# Altium footprint library Generic-Footprint-Library.PcbLib: 11 footprints
Each footprint in its own frame and in the unit in brackets; x right, y up, seen from the top. Pads: shape width x height; smd on the part's side, far side on the other; paste and mask are expansions set on the pad; w line width, h text height; cw(c..) or ccw(c..) is an arc to the next point about the centre after c.
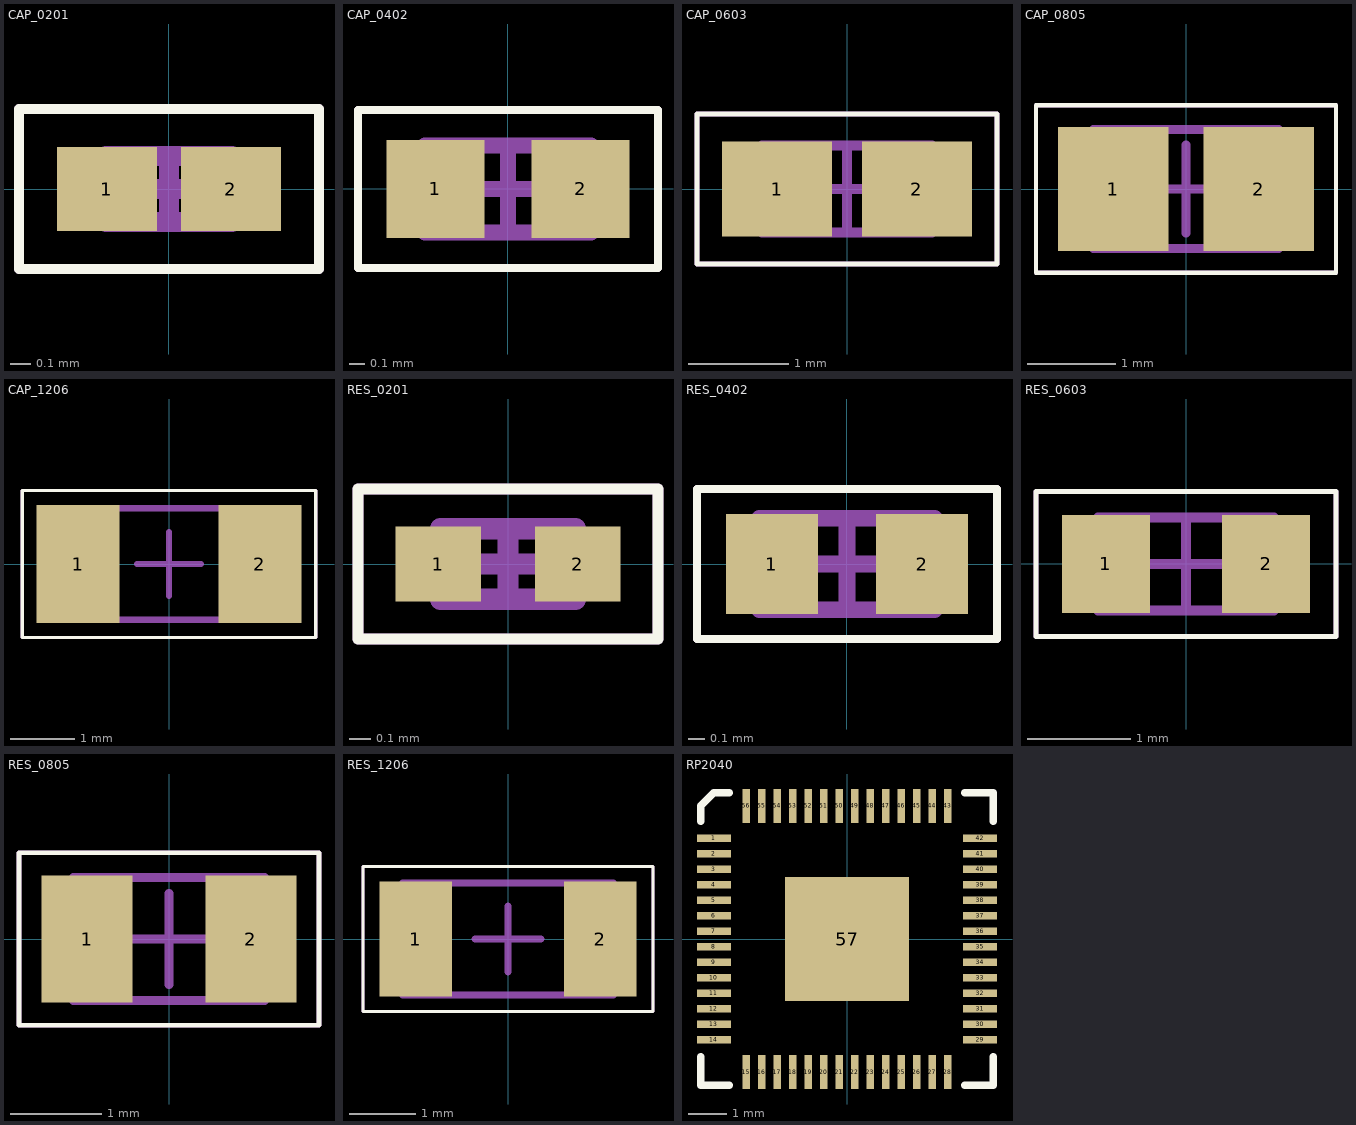
[diagram p0: the footprints below, top view; thin cyan lines are the x and y axes]

## CAP_0201 [mm]
height 0.33
pads (2):
  rect 0.5x0.42 smd mask+0.05: 1(-0.31,0) 2(0.31,0)
Top Overlay:
  lines w0.05: -0.75,-0.4 0.75,-0.4 0.75,0.4 -0.75,0.4 -0.75,-0.4
Top Assembly:
  lines w0.1: -0.315,-0.165 0.315,-0.165 0.315,0.165 -0.315,0.165 -0.315,-0.165
Top Courtyard:
  lines w0.05: -0.75,-0.4 0.75,-0.4 0.75,0.4 -0.75,0.4 -0.75,-0.4
Top Component Center:
  lines w0.1: -0.165,0 0.165,0 ; 0,-0.165 0,0.165
3D body "CAP_0201.step": height 0.33, standoff 0, extent -0.315,-0.165 0.315,0.165

## CAP_0402 [mm]
height 0.55
pads (2):
  rect 0.62x0.62 smd mask+0.05: 1(-0.46,0) 2(0.46,0)
Top Overlay:
  lines w0.05: -0.95,-0.5 0.95,-0.5 0.95,0.5 -0.95,0.5 -0.95,-0.5
Top Assembly:
  lines w0.1: -0.525,-0.275 0.525,-0.275 0.525,0.275 -0.525,0.275 -0.525,-0.275
Top Courtyard:
  lines w0.05: -0.95,-0.5 0.95,-0.5 0.95,0.5 -0.95,0.5 -0.95,-0.5
Top Component Center:
  lines w0.1: -0.275,0 0.275,0 ; 0,-0.275 0,0.275
3D body "CAP_0402_new.step": height 0.55, standoff 0, extent -0.525,-0.275 0.525,0.275

## CAP_0603 [mm]
height 0.87
pads (2):
  rect 1.1x0.95 smd mask+0.05: 1(-0.7,0) 2(0.7,0)
Top Overlay:
  lines w0.05: -1.5,-0.75 1.5,-0.75 1.5,0.75 -1.5,0.75 -1.5,-0.75
Top Assembly:
  lines w0.1: -0.85,-0.435 0.85,-0.435 0.85,0.435 -0.85,0.435 -0.85,-0.435
Top Courtyard:
  lines w0.05: -1.5,-0.75 1.5,-0.75 1.5,0.75 -1.5,0.75 -1.5,-0.75
Top Component Center:
  lines w0.1: -0.435,0 0.435,0 ; 0,-0.435 0,0.435
3D body "CAP_0603.step": height 0.87, standoff 0, extent -0.85,-0.435 0.85,0.435

## CAP_0805 [mm]
height 1.35
pads (2):
  rect 1.25x1.4 smd: 1(-0.825,0) 2(0.825,0)
Top Overlay:
  lines w0.05: -1.331,-0.95 -1.7,-0.95 ; -1.7,-0.95 1.7,-0.95 1.7,0.95 -1.7,0.95 -1.7,-0.95
Top Assembly:
  lines w0.1: -1.05,-0.675 1.05,-0.675 1.05,0.675 -1.05,0.675 -1.05,-0.675
Top Courtyard:
  lines w0.05: -1.7,-0.95 1.7,-0.95 1.7,0.95 -1.7,0.95 -1.7,-0.95
Top Component Center:
  lines w0.1: -0.5,0 0.5,0 ; 0,-0.5 0,0.5
3D body "CAP_0805.step": height 1.35, standoff 0, extent -1.05,-0.675 1.05,0.675

## CAP_1206 [mm]
height 1.35
pads (2):
  rect 1.3x1.85 smd mask+0.05: 1(-1.425,0) 2(1.425,0)
Top Overlay:
  lines w0.05: -2.3,-1.15 2.3,-1.15 2.3,1.15 -2.3,1.15 -2.3,-1.15
Top Assembly:
  lines w0.1: -1.675,-0.875 1.675,-0.875 1.675,0.875 -1.675,0.875 -1.675,-0.875
Top Courtyard:
  lines w0.05: -2.3,-1.15 2.3,-1.15 2.3,1.15 -2.3,1.15 -2.3,-1.15
Top Component Center:
  lines w0.1: -0.5,0 0.5,0 ; 0,-0.5 0,0.5
3D body "CAP_1206.step": height 1.35, standoff 0, extent -1.675,-0.875 1.675,0.875

## RES_0201 [mm]
height 0.26
pads (2):
  rect 0.4x0.35 smd mask+0.05: 1(-0.325,0) 2(0.325,0)
Top Overlay:
  lines w0.05: -0.7,-0.35 -0.7,0.35 ; -0.7,-0.35 0.7,-0.35 ; -0.7,-0.35 -0.7,0.35 ; -0.7,-0.35 0.7,-0.35 ; -0.7,0.35 0.7,0.35 ; -0.7,0.35 0.7,0.35 ; 0.7,-0.35 0.7,0.35 ; 0.7,-0.35 0.7,0.35
Top Assembly:
  lines w0.1: -0.315,-0.165 -0.315,0.165 0.315,0.165 0.315,-0.165 -0.315,-0.165
Top Courtyard:
  lines w0.05: -0.7,-0.35 -0.7,0.35 ; -0.7,-0.35 0.7,-0.35 ; -0.7,-0.35 0.7,-0.35 ; -0.7,-0.35 -0.7,0.35 ; -0.7,0.35 0.7,0.35 ; -0.7,0.35 0.7,0.35 ; 0.7,-0.35 0.7,0.35 ; 0.7,-0.35 0.7,0.35
Top Component Center:
  lines w0.1: -0.165,0 0.165,0 ; 0,-0.165 0,0.165
3D body "RES_0201_new.step": height 0.26, standoff 0, extent -0.315,-0.165 0.315,0.165

## RES_0402 [mm]
height 0.4
pads (2):
  rect 0.55x0.6 smd mask+0.05: 1(-0.45,0) 2(0.45,0)
Top Overlay:
  lines w0.05: -0.9,-0.45 -0.9,0.45 0.9,0.45 0.9,-0.45 -0.9,-0.45
Top Assembly:
  lines w0.1: -0.525,-0.275 -0.525,0.275 0.525,0.275 0.525,-0.275 -0.525,-0.275
Top Courtyard:
  lines w0.05: -0.9,-0.45 -0.9,0.45 0.9,0.45 0.9,-0.45 -0.9,-0.45
Top Component Center:
  lines w0.1: -0.275,0 0.275,0 ; 0,-0.275 0,0.275
3D body "RES_0402.step": height 0.4, standoff 0, extent -0.525,-0.275 0.525,0.275

## RES_0603 [mm]
height 0.55
pads (2):
  rect 0.85x0.95 smd mask+0.05: 1(-0.775,0) 2(0.775,0)
Top Overlay:
  lines w0.05: -1.45,-0.7 -1.45,0.7 1.45,0.7 1.45,-0.7 -1.45,-0.7
Top Assembly:
  lines w0.1: -0.85,-0.45 -0.85,0.45 0.85,0.45 0.85,-0.45 -0.85,-0.45
Top Courtyard:
  lines w0.05: -1.45,-0.7 -1.45,0.7 1.45,0.7 1.45,-0.7 -1.45,-0.7
Top Component Center:
  lines w0.1: -0.45,0 0.45,0 ; 0,-0.45 0,0.45
3D body "RES_0603.step": height 0.55, standoff 0, extent -0.85,-0.45 0.85,0.45

## RES_0805 [mm]
height 0.6
pads (2):
  rect 1x1.4 smd mask+0.05: 1(-0.9,0) 2(0.9,0)
Top Overlay:
  lines w0.05: -1.65,-0.95 1.65,-0.95 1.65,0.95 -1.65,0.95 -1.65,-0.95
Top Assembly:
  lines w0.1: -1.05,-0.675 1.05,-0.675 1.05,0.675 -1.05,0.675 -1.05,-0.675
Top Courtyard:
  lines w0.05: -1.65,-0.95 1.65,-0.95 1.65,0.95 -1.65,0.95 -1.65,-0.95
Top Component Center:
  lines w0.1: -0.5,0 0.5,0 ; 0,-0.5 0,0.5
3D body "RES_0805.step": height 0.6, standoff 0, extent -1.05,-0.675 1.05,0.675

## RES_1206 [mm]
height 0.65
pads (2):
  rect 1.1x1.75 smd mask+0.05: 1(-1.4,0) 2(1.4,0)
Top Overlay:
  lines w0.05: -2.2,-1.1 -2.2,1.1 2.2,1.1 2.2,-1.1 -2.2,-1.1
Top Assembly:
  lines w0.1: -1.6,-0.85 -1.6,0.85 1.6,0.85 1.6,-0.85 -1.6,-0.85
Top Courtyard:
  lines w0.05: -2.2,-1.1 -2.2,1.1 2.2,1.1 2.2,-1.1 -2.2,-1.1
Top Component Center:
  lines w0.1: -0.5,0 0.5,0 ; 0,-0.5 0,0.5
3D body "RES_1206_FIX.step": height 0.65, standoff 0, extent -1.6,-0.85 1.6,0.85

## RP2040 [mm]
pads (57):
  rect 0.875x0.2 smd mask+0.05: 1(-3.437,2.6) 2(-3.437,2.2) 3(-3.437,1.8) 4(-3.437,1.4) 5(-3.437,1) 6(-3.437,0.6) 7(-3.437,0.2) 8(-3.437,-0.2) 9(-3.437,-0.6) 10(-3.437,-1) 11(-3.437,-1.4) 12(-3.437,-1.8) 13(-3.437,-2.2) 14(-3.437,-2.6) 29(3.437,-2.6) 30(3.437,-2.2) 31(3.437,-1.8) 32(3.437,-1.4) 33(3.437,-1) 34(3.437,-0.6) 35(3.437,-0.2) 36(3.437,0.2) 37(3.437,0.6) 38(3.437,1) 39(3.437,1.4) 40(3.437,1.8) 41(3.437,2.2) 42(3.437,2.6)
  rect 0.2x0.875 smd mask+0.05: 15(-2.6,-3.437) 16(-2.2,-3.437) 17(-1.8,-3.437) 18(-1.4,-3.437) 19(-1,-3.437) 20(-0.6,-3.437) 21(-0.2,-3.437) 22(0.2,-3.437) 23(0.6,-3.437) 24(1,-3.437) 25(1.4,-3.437) 26(1.8,-3.437) 27(2.2,-3.437) 28(2.6,-3.437) 43(2.6,3.437) 44(2.2,3.437) 45(1.8,3.437) 46(1.4,3.437) 47(1,3.437) 48(0.6,3.437) 49(0.2,3.437) 50(-0.2,3.437) 51(-0.6,3.437) 52(-1,3.437) 53(-1.4,3.437) 54(-1.8,3.437) 55(-2.2,3.437) 56(-2.6,3.437)
  rect 3.2x3.2 smd mask+0.05: 57(0,0)
Top Overlay:
  lines w0.2: -3.775,-3.048 -3.775,-3.775 -3.048,-3.775 ; -3.775,3.048 -3.775,3.437 -3.437,3.775 ; -3.437,3.775 -3.048,3.775 ; 3.048,-3.775 3.775,-3.775 3.775,-3.048 ; 3.048,3.775 3.775,3.775 3.775,3.048
3D body "QFN56_7X7_RPI.step": height 0.89, standoff 0, extent -3.505,-3.505 3.505,3.505
3D body "QFN56_7X7_RPI.step": height 0.89, standoff 0, extent -3.505,-3.505 3.505,3.505